# Altium footprint library PLCC127P1245X1245X457-28N.PcbLib: 1 footprints
Each footprint in its own frame and in the unit in brackets; x right, y up, seen from the top. Pads: shape width x height; smd on the part's side, far side on the other; paste and mask are expansions set on the pad; w line width, h text height; cw(c..) or ccw(c..) is an arc to the next point about the centre after c.
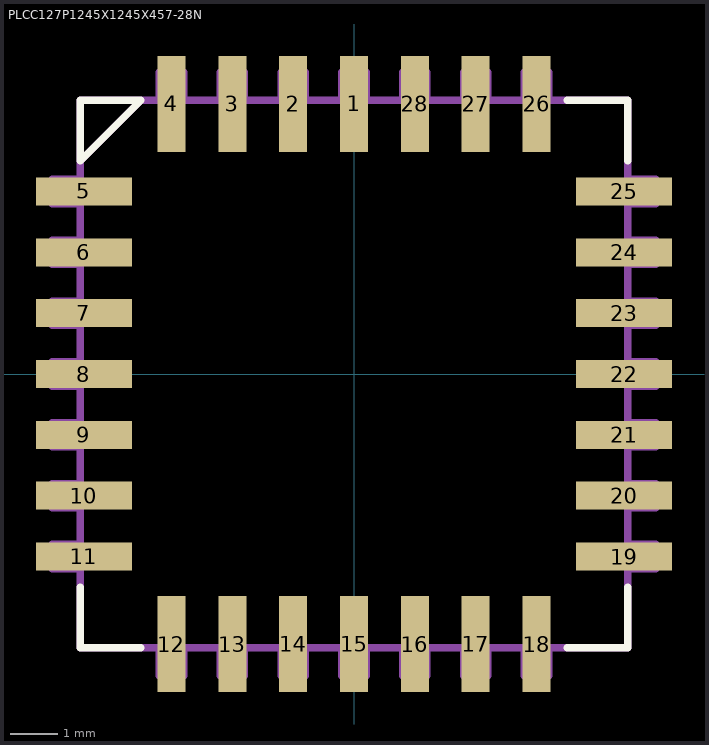
[diagram p0: the footprint, top view; thin cyan lines are the x and y axes]

## PLCC127P1245X1245X457-28N [mil]
pads (28):
  rect 23x79 smd: 1(0,222) 2(-50,222) 3(-100,222) 4(-150,222) 12(-150,-222) 13(-100,-222) 14(-50,-222) 15(0,-222) 16(50,-222) 17(100,-222) 18(150,-222) 26(150,222) 27(100,222) 28(50,222)
  rect 79x23 smd: 5(-222,150) 6(-222,100) 7(-222,50) 8(-222,0) 9(-222,-50) 10(-222,-100) 11(-222,-150) 19(222,-150) 20(222,-100) 21(222,-50) 22(222,0) 23(222,50) 24(222,100) 25(222,150)
Top Overlay:
  lines w6: -225,-175 -225,-225 -175,-225 ; 175,-225 225,-225 225,-175 ; 175,225 225,225 225,175 ; -225,175 -175,225 -225,225 -225,175
Mechanical 13:
  lines w6: -225,175 -175,225 ; -248,-160 -248,-140 -225,-140 -225,-160 -248,-160 ; -248,-110 -248,-90 -225,-90 -225,-110 -248,-110 ; -248,-60 -248,-40 -225,-40 -225,-60 -248,-60 ; -248,-10 -248,10 -225,10 -225,-10 -248,-10 ; -248,40 -248,60 -225,60 -225,40 -248,40 ; -248,90 -248,110 -225,110 -225,90 -248,90 ; -248,140 -248,160 -225,160 -225,140 -248,140 ; -225,-225 225,-225 225,225 -225,225 -225,-225 ; -160,-248 -160,-225 -140,-225 -140,-248 -160,-248 ; -160,225 -140,225 -140,248 -160,248 -160,225 ; -110,-248 -110,-225 -90,-225 -90,-248 -110,-248 ; -110,225 -90,225 -90,248 -110,248 -110,225 ; -60,-248 -60,-225 -40,-225 -40,-248 -60,-248 ; -60,225 -40,225 -40,248 -60,248 -60,225 ; -10,-248 -10,-225 10,-225 10,-248 -10,-248 ; -10,225 10,225 10,248 -10,248 -10,225 ; 40,-248 40,-225 60,-225 60,-248 40,-248 ; 40,225 60,225 60,248 40,248 40,225 ; 90,-248 90,-225 110,-225 110,-248 90,-248 ; 90,225 110,225 110,248 90,248 90,225 ; 140,-248 140,-225 160,-225 160,-248 140,-248 ; 140,225 160,225 160,248 140,248 140,225 ; 225,-160 225,-140 248,-140 248,-160 225,-160 ; 225,-110 225,-90 248,-90 248,-110 225,-110 ; 225,-60 225,-40 248,-40 248,-60 225,-60 ; 225,-10 225,10 248,10 248,-10 225,-10 ; 225,40 225,60 248,60 248,40 225,40 ; 225,90 225,110 248,110 248,90 225,90 ; 225,140 225,160 248,160 248,140 225,140